# EAGLE library part FBB04004-M40S1003K6M (library WisBlock-IO-Template)
Mezzanine Connectors (Board to Board) SMD RoHS 40 Pos Source: Datasheet <https://tupian.txga.com/serials-attach/FBB04004-M/Drawing-FBB04004-M.pdf>
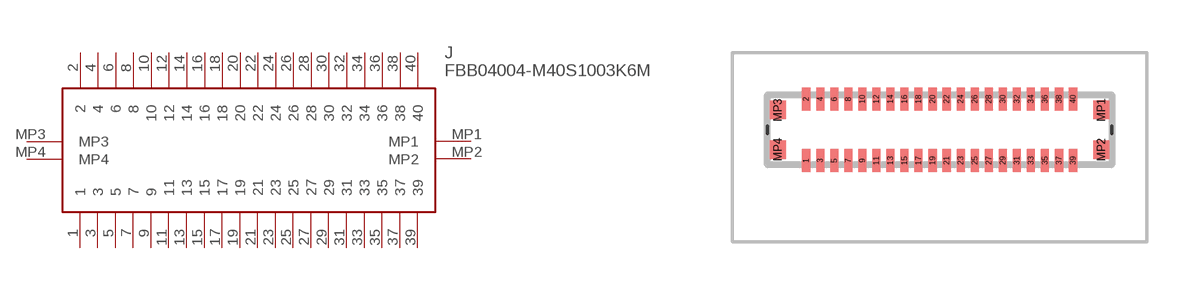
[diagram p0: symbol with the pads of FBB04004M40S1003K6M; footprint FBB04004M40S1003K6M]

Designator prefix J

## FBB04004-M40S1003K6M (ARROW_PART_NUMBER: FBB04004-M40S1003K6M; DESCRIPTION: Mezzanine Connectors (Board to Board) SMD RoHS 40 Pos; HEIGHT: 0.95mm; MANUFACTURER_NAME: TXGA; MANUFACTURER_PART_NUMBER: FBB04004-M40S1003K6M)  [FBB04004M40S1003K6M]
1  1
2  2
3  3
4  4
5  5
6  6
7  7
8  8
9  9
10  10
11  11
12  12
13  13
14  14
15  15
16  16
17  17
18  18
19  19
20  20
21  21
22  22
23  23
24  24
25  25
26  26
27  27
28  28
29  29
30  30
31  31
32  32
33  33
34  34
35  35
36  36
37  37
38  38
39  39
40  40
MP1  MP1
MP2  MP2
MP3  MP3
MP4  MP4

## Footprint FBB04004M40S1003K6M (pad centres in mm)
FBB04004-M40S1003K6M-1
smd 0.23 x 0.65: 1 -3.8,-0.875; 2 -3.8,0.875; 3 -3.4,-0.875; 4 -3.4,0.875; 5 -3,-0.875; 6 -3,0.875; 7 -2.6,-0.875; 8 -2.6,0.875; 9 -2.2,-0.875; 10 -2.2,0.875; 11 -1.8,-0.875; 12 -1.8,0.875; 13 -1.4,-0.875; 14 -1.4,0.875; 15 -1,-0.875; 16 -1,0.875; 17 -0.6,-0.875; 18 -0.6,0.875; 19 -0.2,-0.875; 20 -0.2,0.875; 21 0.2,-0.875; 22 0.2,0.875; 23 0.6,-0.875; 24 0.6,0.875; 25 1,-0.875; 26 1,0.875; 27 1.4,-0.875; 28 1.4,0.875; 29 1.8,-0.875; 30 1.8,0.875; 31 2.2,-0.875; 32 2.2,0.875; 33 2.6,-0.875; 34 2.6,0.875; 35 3,-0.875; 36 3,0.875; 37 3.4,-0.875; 38 3.4,0.875; 39 3.8,-0.875; 40 3.8,0.875
smd 0.45 x 0.53: MP1 4.605,0.565; MP2 4.605,-0.565; MP3 -4.605,0.565; MP4 -4.605,-0.565